# EAGLE library part GC-MULTIAV (library nintendo)
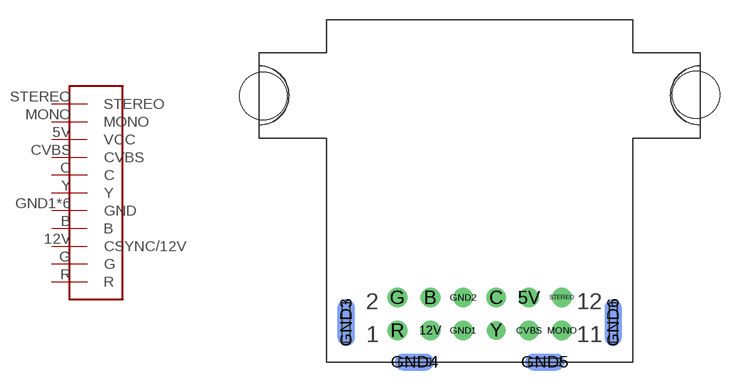
[diagram p1: symbol with the pads of GC-MULTIAV; footprint GC-MULTIAV]

Designator prefix -

## GC-MULTIAV  [GC-MULTIAV]
5V  VCC  out
12V  CSYNC/12V  out
B  B  out
C  C  out
CVBS  CVBS  out
G  G  out
GND1  GND  out
GND2  GND  out
GND3  GND  out
GND4  GND  out
GND5  GND  out
GND6  GND  out
MONO  MONO  out
R  R  out
STEREO  STEREO  out
Y  Y  out

## Footprint GC-MULTIAV (pad centres in mm)
drill 1: 5V 15.4,4.9; 12V 7.9,2.4; B 7.9,4.9; C 12.9,4.9; CVBS 15.4,2.4; G 5.4,4.9; GND1 10.4,2.4; GND2 10.4,4.9; MONO 17.9,2.4; R 5.4,2.4; STEREO 17.9,4.9
smd 1.3 x 3.6 bottom: GND3 1.5,3; GND6 21.8,3
smd 3 x 1.3 bottom: GND4 6.7,0; GND5 16.6,0
drill 0.9: Y 12.9,2.4
hole 3.6 at -4.8,20.2
hole 3.6 at 28.1,20.3